# Altium schematic symbol library ST Microcontrollers.SchLib: 1 symbol
Pins are listed as number, name and electrical type; pins without a type are passive.

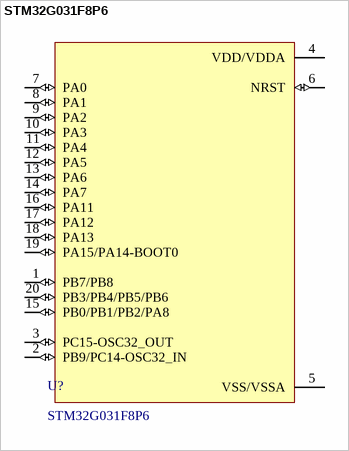
[diagram p0: symbol STM32G031F8P6]

## STM32G031F8P6
designator U?
Arm Cortex-M0+ 32-bit MCU, up to 64 KB Flash, 8 KB RAM, 2x USART, timers, ADC, comm. I/Fs, 1.7-3.6V; Manufacturer: ST; Manufacturer Part Number: STM32G031F8P6; Supplier: LCSC; Supplier Part Number: C529334; ComponentLink1Description: LCSC; ComponentLink1URL: https://www.lcsc.com/product-detail/C529334.html?spm=wm.fly.bg.4.xh&lcsc_vid=R1MPUFNeFAdYBgIERlVYAgIEQgNZVVdeEgJWXlxSQwUxVlNeQVZfUFJXRlNfUTsOAxUeFF5JWBYZEEoKFBINSQcJGk4eFQsCAgIaSgADAwAHC0slQlNXVFdWWQkaCgg%3D
footprint TSOP65P640X120-20N (TSOP, 20-Leads, Body 6,50x4,40mm, Pitch 0,65mm, IPC Medium Density)
pins: 1 PB7/PB8 (io), 2 PB9/PC14-OSC32_IN (io), 3 PC15-OSC32_OUT (io), 4 VDD/VDDA (power), 5 VSS/VSSA (power), 6 NRST (io), 7 PA0 (io), 8 PA1 (io), 9 PA2 (io), 10 PA3 (io), 11 PA4 (io), 12 PA5 (io), 13 PA6 (io), 14 PA7 (io), 15 PB0/PB1/PB2/PA8 (io), 16 PA11 (io), 17 PA12 (io), 18 PA13 (io), 19 PA15/PA14-BOOT0 (io), 20 PB3/PB4/PB5/PB6 (io)